# EAGLE library part ESP32-WROVER-E (library OddsBooster)
ESP32-WROVER-E Module used for Bluetooth and Wifi commmunications. Includes Transceiver IC, MCU, Antenna, and Xtal Oscillators.
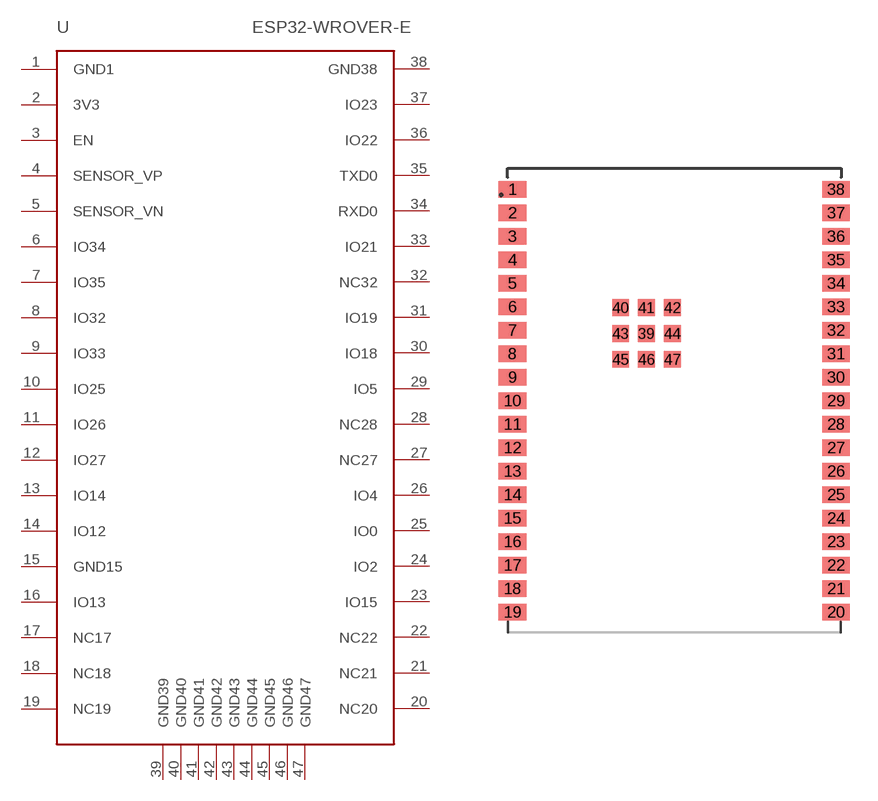
[diagram p5: symbol with the pads of ESP32-WROVER-E; footprint ESP32-WROVER-E]

Designator prefix U

## ESP32-WROVER-E  [ESP32-WROVER-E]
1  GND1  pwr
2  3V3  pwr
3  EN  in
4  SENSOR_VP  in
5  SENSOR_VN  in
6  IO34  in
7  IO35  in
8  IO32
9  IO33
10  IO25
11  IO26
12  IO27
13  IO14
14  IO12
15  GND15  pwr
16  IO13
17  NC17  nc
18  NC18  nc
19  NC19  nc
20  NC20  nc
21  NC21  nc
22  NC22  nc
23  IO15
24  IO2
25  IO0
26  IO4
27  NC27  nc
28  NC28  nc
29  IO5
30  IO18
31  IO19
32  NC32  nc
33  IO21
34  RXD0
35  TXD0
36  IO22
37  IO23
38  GND38  pwr
39  GND39
40  GND40
41  GND41
42  GND42
43  GND43  pwr
44  GND44
45  GND45
46  GND46
47  GND47

## Footprint ESP32-WROVER-E (pad centres in mm)
smd 1.5 x 0.9: 1 0,0; 2 0,-1.27; 3 0,-2.54; 4 0,-3.81; 5 0,-5.08; 6 0,-6.35; 7 0,-7.62; 8 0,-8.89; 9 0,-10.16; 10 0,-11.43; 11 0,-12.7; 12 0,-13.97; 13 0,-15.24; 14 0,-16.51; 15 0,-17.78; 16 0,-19.05; 17 0,-20.32; 18 0,-21.59; 19 0,-22.86; 20 17.5,-22.86; 21 17.5,-21.59; 22 17.5,-20.32; 23 17.5,-19.05; 24 17.5,-17.78; 25 17.5,-16.51; 26 17.5,-15.24; 27 17.5,-13.97; 28 17.5,-12.7; 29 17.5,-11.43; 30 17.5,-10.16; 31 17.5,-8.89; 32 17.5,-7.62; 33 17.5,-6.35; 34 17.5,-5.08; 35 17.5,-3.81; 36 17.5,-2.54; 37 17.5,-1.27; 38 17.5,0
smd 0.9 x 0.9: 39 7.25,-7.8; 40 5.85,-6.4; 41 7.25,-6.4; 42 8.65,-6.4; 43 5.85,-7.8; 44 8.65,-7.8; 45 5.85,-9.2; 46 7.25,-9.2; 47 8.65,-9.2